# EAGLE library part 74HC238D (library SOIC127P600X175-16N)
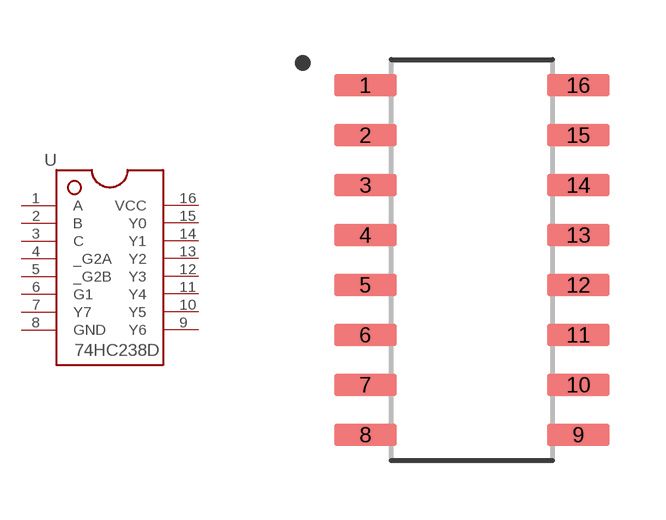
[diagram p0: symbol with the pads of SOIC127P600X175-16N; footprint SOIC127P600X175-16N]

Designator prefix -

## 74HC238D  [SOIC127P600X175-16N]
1  A
2  B
3  C
4  _G2A
5  _G2B
6  G1
7  Y7
8  GND
9  Y6
10  Y5
11  Y4
12  Y3
13  Y2
14  Y1
15  Y0
16  VCC

## Footprint SOIC127P600X175-16N (pad centres in mm)
smd 1.59 x 0.57: 1 -2.71,4.445; 2 -2.71,3.175; 3 -2.71,1.905; 4 -2.71,0.635; 5 -2.71,-0.635; 6 -2.71,-1.905; 7 -2.71,-3.175; 8 -2.71,-4.445; 9 2.71,-4.445; 10 2.71,-3.175; 11 2.71,-1.905; 12 2.71,-0.635; 13 2.71,0.635; 14 2.71,1.905; 15 2.71,3.175; 16 2.71,4.445